# Altium footprint library Relays.PcbLib: 3 footprints
Each footprint in its own frame and in the unit in brackets; x right, y up, seen from the top. Pads: shape width x height; smd on the part's side, far side on the other; paste and mask are expansions set on the pad; w line width, h text height; cw(c..) or ccw(c..) is an arc to the next point about the centre after c.
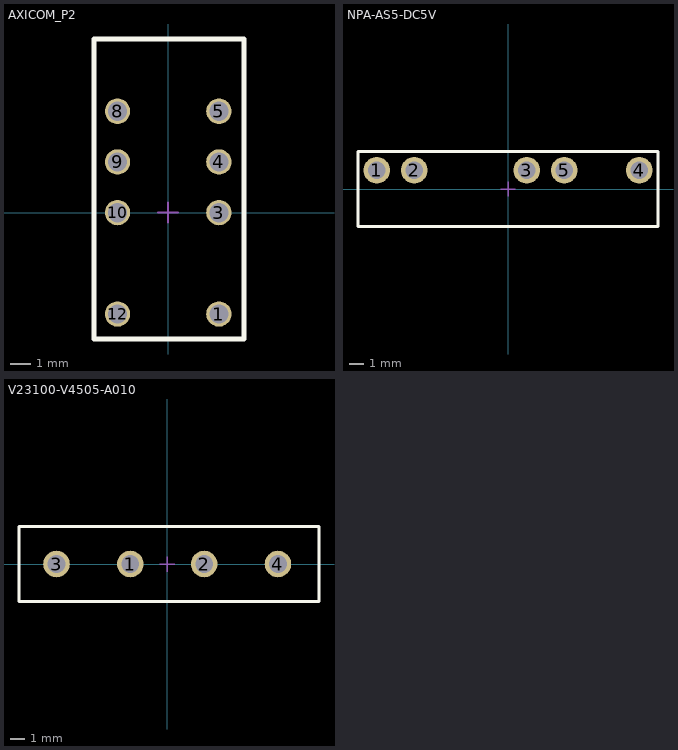
[diagram p0: the footprints below, top view; thin cyan lines are the x and y axes]

## AXICOM_P2 [mil]
pads (8):
  round 50 hole 38: 1(100,-200) 3(100,0) 4(100,100) 5(100,200) 8(-100,200) 9(-100,100) 10(-100,0) 12(-100,-200)
Top Overlay:
  lines w10: -146.46,-249.29 149.29,-249.29 149.29,194.33 149.29,342.21 -146.46,342.21 -146.46,-249.29
Mechanical 13:
  lines w2: -145.67,-248.03 149.61,-248.03 149.61,342.52 -145.67,342.52 -145.67,-248.03
  text ".Designator" at 7.87,-66.93 h19.68
Mechanical 15:
  lines w3.94: -19.69,0 19.68,0 ; 0,-19.68 0,19.69 ; -145.67,-248.03 149.61,-248.03 149.61,342.52 -145.67,342.52 -145.67,-248.03
3D body: height 393.7, standoff 0, extent -145.67,-248.03 149.61,342.52

## NPA-AS5-DC5V [mm] "Relay"
height 1.8
pads (5):
  round 1.8 hole 1.2: 1(-8.89,1.27) 2(-6.35,1.27) 3(1.27,1.27) 4(8.89,1.27) 5(3.81,1.27)
Top Overlay:
  lines w0.2: -10.16,-2.54 -10.16,2.54 10.16,2.54 10.16,-2.54 -10.16,-2.54
Mechanical 13:
  lines w0.051: -10.16,-2.54 -10.16,2.54 10.16,2.54 10.16,-2.54 -10.16,-2.54
  text ".Designator" at -2.54,-1.27 h0.5
Mechanical 15:
  lines w0.1: -0.5,0 0.5,0 ; 0,-0.5 0,0.5 ; -10.16,-2.54 -10.16,2.54 10.16,2.54 10.16,-2.54 -10.16,-2.54
3D body: height 12.5, standoff 0, extent -10.16,-2.54 10.16,2.54

## V23100-V4505-A010 [mm] "Relay"
height 1.8
pads (4):
  round 1.8 hole 1.2: 1(-2.5,0) 2(2.5,0) 3(-7.5,0) 4(7.5,0)
Top Overlay:
  lines w0.2: -10.04,-2.54 10.28,-2.54 10.28,2.54 -10.04,2.54 -10.04,-2.54
Mechanical 13:
  lines w0.051: -10.04,-2.54 10.28,-2.54 10.28,2.54 -10.04,2.54 -10.04,-2.54
  text ".Designator" at -1.778,1.27 h0.5
Mechanical 15:
  lines w0.1: -0.508,0 0.508,0 ; 0,-0.508 0,0.508 ; -10.04,-2.54 10.28,-2.54 10.28,2.54 -10.04,2.54 -10.04,-2.54
3D body: height 7.65, standoff -3.65, extent -9.78,-2.54 10.02,2.54